# Altium footprint library co-ax-connector.PcbLib: 1 footprints
Each footprint in its own frame and in the unit in brackets; x right, y up, seen from the top. Pads: shape width x height; smd on the part's side, far side on the other; paste and mask are expansions set on the pad; w line width, h text height; cw(c..) or ccw(c..) is an arc to the next point about the centre after c.
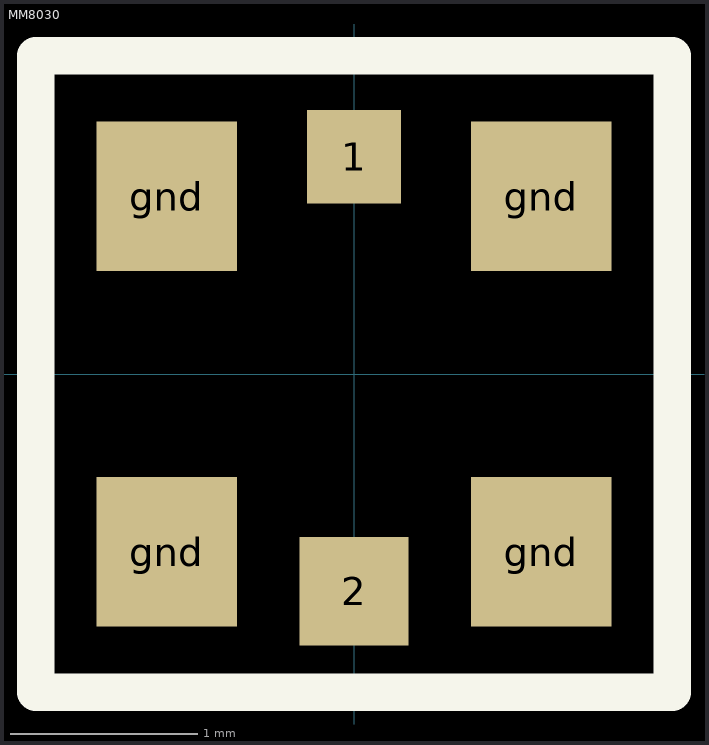
[diagram p0: the footprint, top view; thin cyan lines are the x and y axes]

## MM8030 [mm] "Murrata coax connector"
height 1.4
pads (6):
  rect 0.5x0.5 smd: 1(0,1.16)
  rect 0.58x0.58 smd: 2(0,-1.16)
  rect 0.75x0.8 smd: gnd(-1,-0.95) gnd(-1,0.95) gnd(1,-0.95) gnd(1,0.95)
Top Overlay:
  lines w0.2: -1.7,-1.7 1.7,-1.7 1.7,1.7 -1.7,1.7 -1.7,-1.7